# Altium integrated library Atmel Memory EEPROM.IntLib: 84 symbols (part 2 of 2)
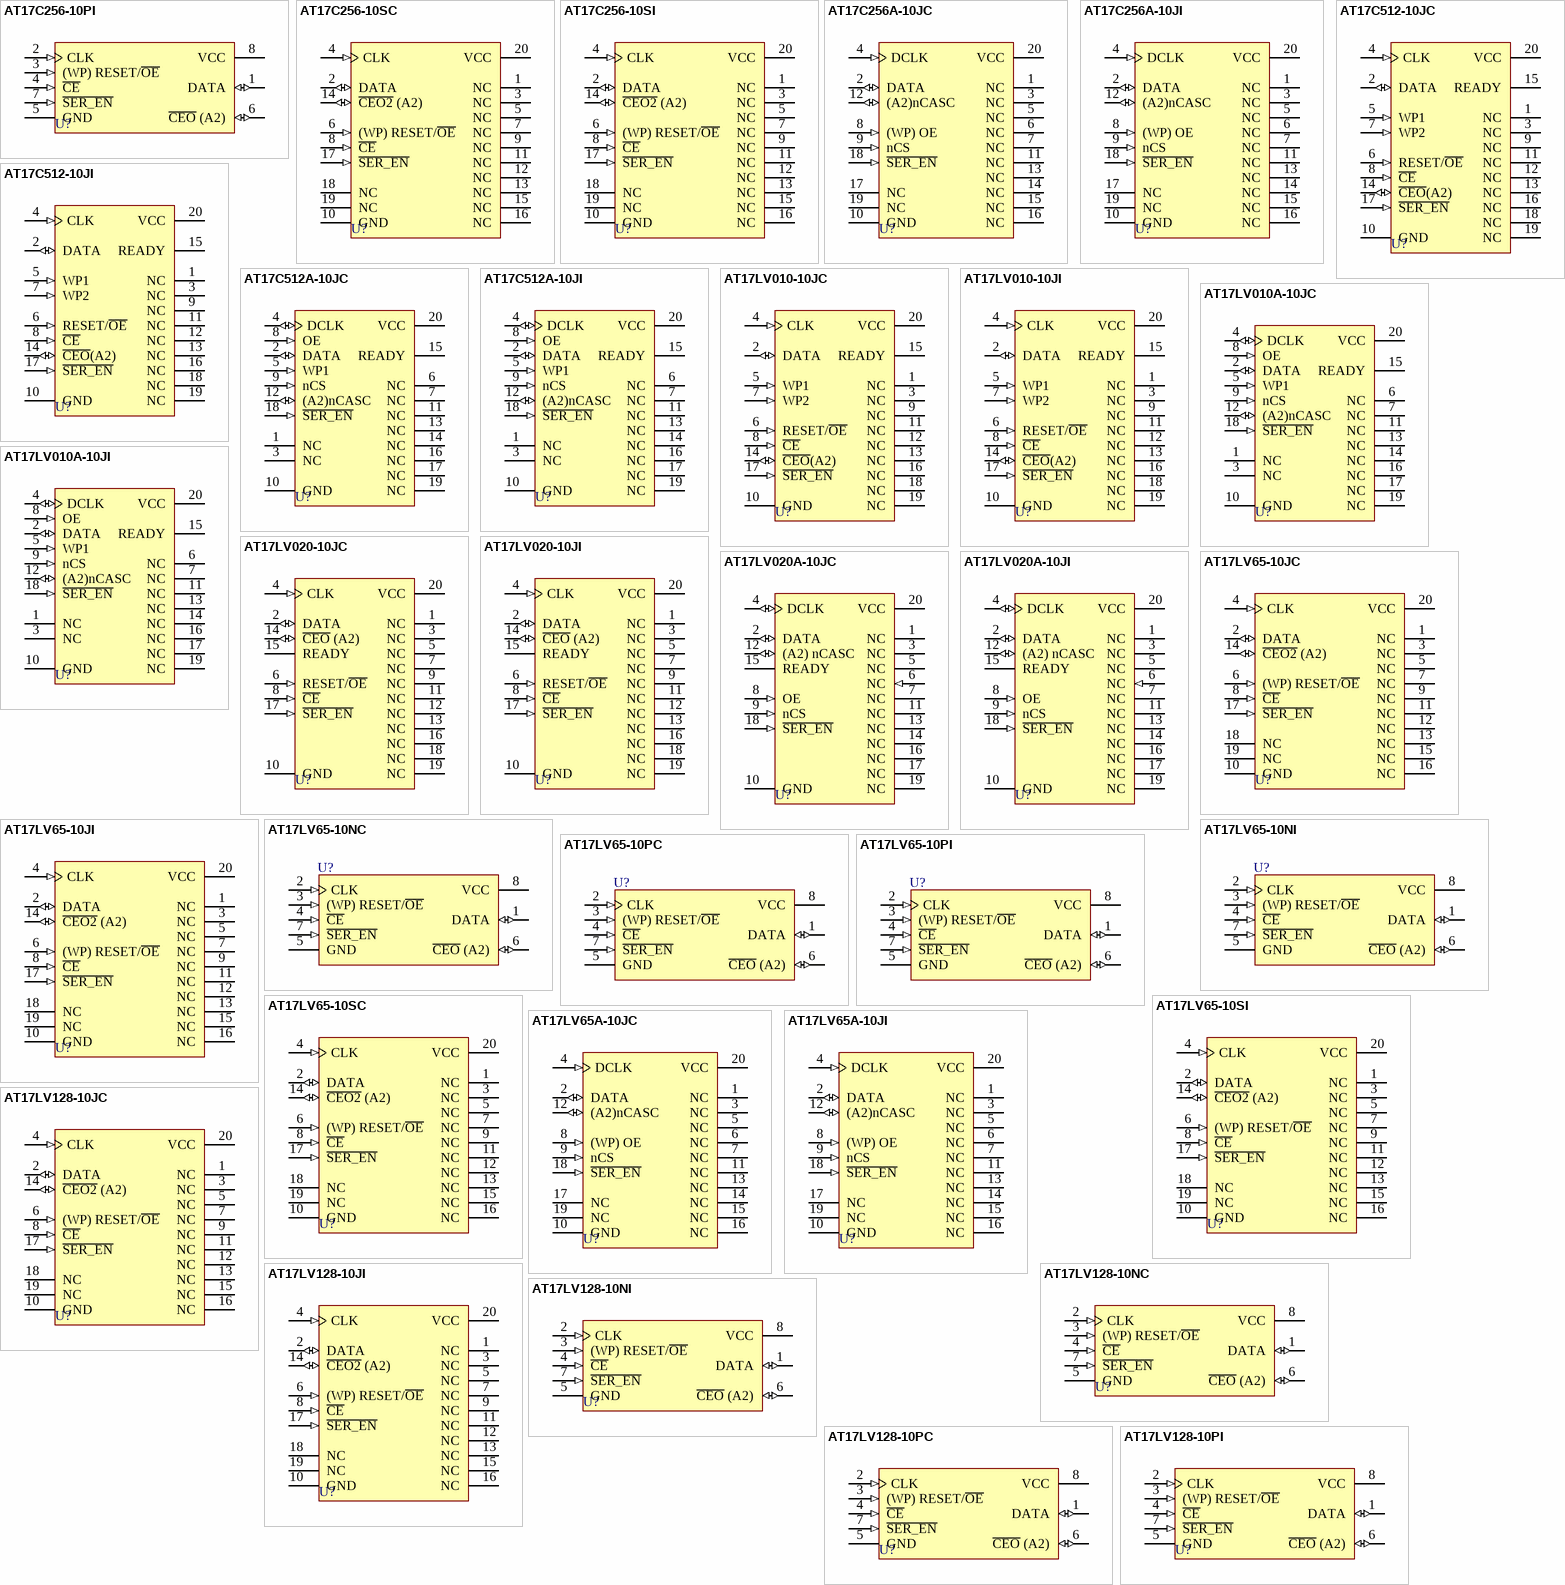
[diagram p3: symbols AT17C256-10PI to AT17LV128-10PI]

## AT17LV020-10JC
designator U?
FPGA Configuration EEPROM 2M Memory; Published: 17-Jul-2002; LatestRevisionDate: 13-Apr-2006; LatestRevisionNote: IPC-7351 Footprint Added.; DatasheetVersion: Rev. 1239B-05/99; PackageVersion: Aug-1999; PackageReference: 20J; Publisher: Altium Limited; PackageDescription: 20-Pin Leaded Chip Carrier 1.27 mm Pitch; Code_JEDEC: MS-018-AA; Code_IPC: PLCC-20; ComponentLink1Description: Manufacturer Link; ComponentLink1URL: http://www.atmel.com
footprint 20J_N (Leaded Chip Carrier, 20-Leads, Body 9x9mm, Pitch 1.27mm, IPC Medium Density)
footprint 20J_L (Leaded Chip Carrier, 20-Leads, Body 9x9mm, Pitch 1.27mm, IPC High Density)
footprint 20J_M (Leaded Chip Carrier, 20-Leads, Body 9x9mm, Pitch 1.27mm, IPC Low Density)
3D model AT17LV020-20J (20-Pin Leaded Chip Carrier 1.27 mm Pitch)
pins: 1 NC, 2 DATA (io), 3 NC, 4 CLK (in), 5 NC, 6 RESET/~{OE} (in), 7 NC, 8 ~{CE} (in), 9 NC, 10 GND (power), 11 NC, 12 NC, 13 NC, 14 ~{CEO} (A2) (io), 15 READY (oc), 16 NC, 17 ~{SER_EN} (in), 18 NC, 19 NC, 20 VCC (power)

## AT17LV020-10JI
designator U?
FPGA Configuration EEPROM 2M Memory; Published: 17-Jul-2002; LatestRevisionDate: 13-Apr-2006; LatestRevisionNote: IPC-7351 Footprint Added.; DatasheetVersion: Rev. 1239B-05/99; PackageVersion: Aug-1999; PackageReference: 20J; Publisher: Altium Limited; PackageDescription: 20-Pin Leaded Chip Carrier 1.27 mm Pitch; Code_JEDEC: MS-018-AA; Code_IPC: PLCC-20; ComponentLink1Description: Manufacturer Link; ComponentLink1URL: http://www.atmel.com
footprint 20J_N (Leaded Chip Carrier, 20-Leads, Body 9x9mm, Pitch 1.27mm, IPC Medium Density)
footprint 20J_L (Leaded Chip Carrier, 20-Leads, Body 9x9mm, Pitch 1.27mm, IPC High Density)
footprint 20J_M (Leaded Chip Carrier, 20-Leads, Body 9x9mm, Pitch 1.27mm, IPC Low Density)
3D model AT17LV020-20J (20-Pin Leaded Chip Carrier 1.27 mm Pitch)
pins: 1 NC, 2 DATA (io), 3 NC, 4 CLK (in), 5 NC, 6 RESET/~{OE} (in), 7 NC, 8 ~{CE} (in), 9 NC, 10 GND (power), 11 NC, 12 NC, 13 NC, 14 ~{CEO} (A2) (io), 15 READY (oc), 16 NC, 17 ~{SER_EN} (in), 18 NC, 19 NC, 20 VCC (power)

## AT17LV020A-10JC
designator U?
FPGA Configuration EEPROM 2M Memory; Published: 17-Jul-2002; LatestRevisionDate: 13-Apr-2006; LatestRevisionNote: IPC-7351 Footprint Added.; DatasheetVersion: Rev. 1270A-05/00; PackageVersion: Aug-1999; PackageReference: 20J; Publisher: Altium Limited; PackageDescription: 20-Pin Leaded Chip Carrier 1.27 mm Pitch; Code_JEDEC: MS-018-AA; Code_IPC: PLCC-20; ComponentLink1Description: Manufacturer Link; ComponentLink1URL: http://www.atmel.com
footprint 20J_N (Leaded Chip Carrier, 20-Leads, Body 9x9mm, Pitch 1.27mm, IPC Medium Density)
footprint 20J_L (Leaded Chip Carrier, 20-Leads, Body 9x9mm, Pitch 1.27mm, IPC High Density)
footprint 20J_M (Leaded Chip Carrier, 20-Leads, Body 9x9mm, Pitch 1.27mm, IPC Low Density)
3D model AT17LV020A-20J (20-Pin Leaded Chip Carrier 1.27 mm Pitch)
pins: 1 NC, 2 DATA (io), 3 NC, 4 DCLK (io), 5 NC, 6 NC (in), 7 NC, 8 OE (in), 9 nCS (in), 10 GND (power), 11 NC, 12 (A2) nCASC (io), 13 NC, 14 NC, 15 READY (oc), 16 NC, 17 NC, 18 ~{SER_EN} (in), 19 NC, 20 VCC (power)

## AT17LV020A-10JI
designator U?
FPGA Configuration EEPROM 2M Memory; Published: 17-Jul-2002; LatestRevisionDate: 13-Apr-2006; LatestRevisionNote: IPC-7351 Footprint Added.; DatasheetVersion: Rev. 1270A-05/00; PackageVersion: Aug-1999; PackageReference: 20J; Publisher: Altium Limited; PackageDescription: 20-Pin Leaded Chip Carrier 1.27 mm Pitch; Code_JEDEC: MS-018-AA; Code_IPC: PLCC-20; ComponentLink1Description: Manufacturer Link; ComponentLink1URL: http://www.atmel.com
footprint 20J_N (Leaded Chip Carrier, 20-Leads, Body 9x9mm, Pitch 1.27mm, IPC Medium Density)
footprint 20J_L (Leaded Chip Carrier, 20-Leads, Body 9x9mm, Pitch 1.27mm, IPC High Density)
footprint 20J_M (Leaded Chip Carrier, 20-Leads, Body 9x9mm, Pitch 1.27mm, IPC Low Density)
3D model AT17LV020A-20J (20-Pin Leaded Chip Carrier 1.27 mm Pitch)
pins: 1 NC, 2 DATA (io), 3 NC, 4 DCLK (io), 5 NC, 6 NC (in), 7 NC, 8 OE (in), 9 nCS (in), 10 GND (power), 11 NC, 12 (A2) nCASC (io), 13 NC, 14 NC, 15 READY (oc), 16 NC, 17 NC, 18 ~{SER_EN} (in), 19 NC, 20 VCC (power)

## AT17LV65-10JC
designator U?
FPGA Configuration EEPROM 64K Memory; Published: 17-Jul-2002; LatestRevisionDate: 13-Apr-2006; LatestRevisionNote: IPC-7351 Footprint Added.; DatasheetVersion: Rev. 1636B-05/00; PackageVersion: Aug-1999; PackageReference: 20J; Publisher: Altium Limited; PackageDescription: 20-Pin Leaded Chip Carrier 1.27 mm Pitch; Code_JEDEC: MS-018-AA; Code_IPC: PLCC-20; ComponentLink1Description: Manufacturer Link; ComponentLink1URL: http://www.atmel.com; ComponentLink2Description: Datasheet; ComponentLink2URL: http://www.atmel.com/dyn/resources/prod_documents/doc2321.pdf
footprint 20J_N (Leaded Chip Carrier, 20-Leads, Body 9x9mm, Pitch 1.27mm, IPC Medium Density)
footprint 20J_L (Leaded Chip Carrier, 20-Leads, Body 9x9mm, Pitch 1.27mm, IPC High Density)
footprint 20J_M (Leaded Chip Carrier, 20-Leads, Body 9x9mm, Pitch 1.27mm, IPC Low Density)
3D model AT17LV65-20J (20-Pin Leaded Chip Carrier 1.27 mm Pitch)
pins: 1 NC, 2 DATA (io), 3 NC, 4 CLK (in), 5 NC, 6 (WP) RESET/~{OE} (in), 7 NC, 8 ~{CE} (in), 9 NC, 10 GND (power), 11 NC, 12 NC, 13 NC, 14 ~{CEO2} (A2) (io), 15 NC, 16 NC, 17 ~{SER_EN} (in), 18 NC, 19 NC, 20 VCC (power)

## AT17LV65-10JI
designator U?
FPGA Configuration EEPROM 64K Memory; Published: 17-Jul-2002; LatestRevisionDate: 13-Apr-2006; LatestRevisionNote: IPC-7351 Footprint Added.; DatasheetVersion: Rev. 1636B-05/00; PackageVersion: Aug-1999; PackageReference: 20J; Publisher: Altium Limited; PackageDescription: 20-Pin Leaded Chip Carrier 1.27 mm Pitch; Code_JEDEC: MS-018-AA; Code_IPC: PLCC-20; ComponentLink1Description: Manufacturer Link; ComponentLink1URL: http://www.atmel.com; ComponentLink2Description: Datasheet; ComponentLink2URL: http://www.atmel.com/dyn/resources/prod_documents/doc2321.pdf
footprint 20J_N (Leaded Chip Carrier, 20-Leads, Body 9x9mm, Pitch 1.27mm, IPC Medium Density)
footprint 20J_L (Leaded Chip Carrier, 20-Leads, Body 9x9mm, Pitch 1.27mm, IPC High Density)
footprint 20J_M (Leaded Chip Carrier, 20-Leads, Body 9x9mm, Pitch 1.27mm, IPC Low Density)
3D model AT17LV65-20J (20-Pin Leaded Chip Carrier 1.27 mm Pitch)
pins: 1 NC, 2 DATA (io), 3 NC, 4 CLK (in), 5 NC, 6 (WP) RESET/~{OE} (in), 7 NC, 8 ~{CE} (in), 9 NC, 10 GND (power), 11 NC, 12 NC, 13 NC, 14 ~{CEO2} (A2) (io), 15 NC, 16 NC, 17 ~{SER_EN} (in), 18 NC, 19 NC, 20 VCC (power)

## AT17LV65-10NC
designator U?
FPGA Configuration EEPROM 64K Memory; Published: 17-Jul-2002; LatestRevisionDate: 13-Apr-2006; LatestRevisionNote: IPC-7351 Footprint Added.; DatasheetVersion: Rev. 1636B-05/00; PackageReference: 8S1; Publisher: Altium Limited; PackageDescription: 8-Pin Small Outline Integrated Circuit 1.27 mm Pitch; Code_JEDEC: MS-012-AA; Code_IPC: SOIC127P600-8; ComponentLink1Description: Manufacturer Link; ComponentLink1URL: http://www.atmel.com; ComponentLink2Description: Datasheet; ComponentLink2URL: http://www.atmel.com/dyn/resources/prod_documents/doc2321.pdf
footprint 8S1_N (SOIC, 8-Leads, Body 4.9x3.9mm, Pitch 1.27mm, IPC Medium Density)
footprint 8S1_L (SOIC, 8-Leads, Body 4.9x3.9mm, Pitch 1.27mm, IPC High Density)
footprint 8S1_M (SOIC, 8-Leads, Body 4.9x3.9mm, Pitch 1.27mm, IPC Low Density)
3D model 8S1 (8-Pin Small Outline Integrated Circuit 1.27 mm Pitch)
pins: 1 DATA (io), 2 CLK (in), 3 (WP) RESET/~{OE} (in), 4 ~{CE} (in), 5 GND (power), 6 ~{CEO} (A2) (io), 7 ~{SER_EN} (in), 8 VCC (power)

## AT17LV65-10NI
designator U?
FPGA Configuration EEPROM 64K Memory; Published: 17-Jul-2002; LatestRevisionDate: 13-Apr-2006; LatestRevisionNote: IPC-7351 Footprint Added.; DatasheetVersion: Rev. 1636B-05/00; PackageReference: 8S1; Publisher: Altium Limited; PackageDescription: 8-Pin Small Outline Integrated Circuit 1.27 mm Pitch; Code_JEDEC: MS-012-AA; Code_IPC: SOIC127P600-8; ComponentLink1Description: Manufacturer Link; ComponentLink1URL: http://www.atmel.com; ComponentLink2Description: Datasheet; ComponentLink2URL: http://www.atmel.com/dyn/resources/prod_documents/doc2321.pdf
footprint 8S1_N (SOIC, 8-Leads, Body 4.9x3.9mm, Pitch 1.27mm, IPC Medium Density)
footprint 8S1_L (SOIC, 8-Leads, Body 4.9x3.9mm, Pitch 1.27mm, IPC High Density)
footprint 8S1_M (SOIC, 8-Leads, Body 4.9x3.9mm, Pitch 1.27mm, IPC Low Density)
3D model 8S1 (8-Pin Small Outline Integrated Circuit 1.27 mm Pitch)
pins: 1 DATA (io), 2 CLK (in), 3 (WP) RESET/~{OE} (in), 4 ~{CE} (in), 5 GND (power), 6 ~{CEO} (A2) (io), 7 ~{SER_EN} (in), 8 VCC (power)

## AT17LV65-10PC
designator U?
FPGA Configuration EEPROM 64K Memory; Published: 17-Jul-2002; LatestRevisionDate: 04-Mar-2005; LatestRevisionNote: Stylized 3D Model Added.; DatasheetVersion: Rev. 1636B-05/00; PackageReference: 8P3; Publisher: Altium Limited; PackageDescription: DIP; 8 Leads; Row Spacing 7.62 mm; Pitch 2.54 mm; ComponentLink1Description: Manufacturer Link; ComponentLink1URL: http://www.atmel.com; ComponentLink2Description: Datasheet; ComponentLink2URL: http://www.atmel.com/dyn/resources/prod_documents/doc2321.pdf
footprint 8P3 (DIP; 8 Leads; Row Spacing 7.62 mm; Pitch 2.54 mm)
3D model 8P3 (DIP; 8 Leads; Row Spacing 7.62 mm; Pitch 2.54 mm)
pins: 1 DATA (io), 2 CLK (in), 3 (WP) RESET/~{OE} (in), 4 ~{CE} (in), 5 GND (power), 6 ~{CEO} (A2) (io), 7 ~{SER_EN} (in), 8 VCC (power)

## AT17LV65-10PI
designator U?
FPGA Configuration EEPROM 64K Memory; Published: 17-Jul-2002; LatestRevisionDate: 04-Mar-2005; LatestRevisionNote: Stylized 3D Model Added.; DatasheetVersion: Rev. 1636B-05/00; PackageReference: 8P3; Publisher: Altium Limited; PackageDescription: DIP; 8 Leads; Row Spacing 7.62 mm; Pitch 2.54 mm; ComponentLink1Description: Manufacturer Link; ComponentLink1URL: http://www.atmel.com; ComponentLink2Description: Datasheet; ComponentLink2URL: http://www.atmel.com/dyn/resources/prod_documents/doc2321.pdf
footprint 8P3 (DIP; 8 Leads; Row Spacing 7.62 mm; Pitch 2.54 mm)
3D model 8P3 (DIP; 8 Leads; Row Spacing 7.62 mm; Pitch 2.54 mm)
pins: 1 DATA (io), 2 CLK (in), 3 (WP) RESET/~{OE} (in), 4 ~{CE} (in), 5 GND (power), 6 ~{CEO} (A2) (io), 7 ~{SER_EN} (in), 8 VCC (power)

## AT17LV65-10SC
designator U?
FPGA Configuration EEPROM 64K Memory; Published: 17-Jul-2002; LatestRevisionDate: 13-Apr-2006; LatestRevisionNote: IPC-7351 Footprint Added.; DatasheetVersion: Rev. 1636B-05/00; PackageVersion: Aug-1999; PackageReference: 20S; Publisher: Altium Limited; PackageDescription: 20-Pin Small Outline Integrated Circuit 1.27 mm Pitch; ComponentLink1Description: Manufacturer Link; ComponentLink1URL: http://www.atmel.com; ComponentLink2Description: Datasheet; ComponentLink2URL: http://www.atmel.com/dyn/resources/prod_documents/doc2321.pdf
footprint 20S_N (SOIC, 20-Leads, Body 12.8x7.5mm, Pitch 1.27mm, IPC Medium Density)
footprint 20S_L (SOIC, 20-Leads, Body 12.8x7.5mm, Pitch 1.27mm, IPC High Density)
footprint 20S_M (SOIC, 20-Leads, Body 12.8x7.5mm, Pitch 1.27mm, IPC Low Density)
3D model 20S (20-Pin Small Outline Integrated Circuit 1.27 mm Pitch)
pins: 1 NC, 2 DATA (io), 3 NC, 4 CLK (in), 5 NC, 6 (WP) RESET/~{OE} (in), 7 NC, 8 ~{CE} (in), 9 NC, 10 GND (power), 11 NC, 12 NC, 13 NC, 14 ~{CEO2} (A2) (io), 15 NC, 16 NC, 17 ~{SER_EN} (in), 18 NC, 19 NC, 20 VCC (power)

## AT17LV65-10SI
designator U?
FPGA Configuration EEPROM 64K Memory; Published: 17-Jul-2002; LatestRevisionDate: 13-Apr-2006; LatestRevisionNote: IPC-7351 Footprint Added.; DatasheetVersion: Rev. 1636B-05/00; PackageVersion: Aug-1999; PackageReference: 20S; Publisher: Altium Limited; PackageDescription: 20-Pin Small Outline Integrated Circuit 1.27 mm Pitch; ComponentLink1Description: Manufacturer Link; ComponentLink1URL: http://www.atmel.com; ComponentLink2Description: Datasheet; ComponentLink2URL: http://www.atmel.com/dyn/resources/prod_documents/doc2321.pdf
footprint 20S_N (SOIC, 20-Leads, Body 12.8x7.5mm, Pitch 1.27mm, IPC Medium Density)
footprint 20S_L (SOIC, 20-Leads, Body 12.8x7.5mm, Pitch 1.27mm, IPC High Density)
footprint 20S_M (SOIC, 20-Leads, Body 12.8x7.5mm, Pitch 1.27mm, IPC Low Density)
3D model 20S (20-Pin Small Outline Integrated Circuit 1.27 mm Pitch)
pins: 1 NC, 2 DATA (io), 3 NC, 4 CLK (in), 5 NC, 6 (WP) RESET/~{OE} (in), 7 NC, 8 ~{CE} (in), 9 NC, 10 GND (power), 11 NC, 12 NC, 13 NC, 14 ~{CEO2} (A2) (io), 15 NC, 16 NC, 17 ~{SER_EN} (in), 18 NC, 19 NC, 20 VCC (power)

## AT17LV65A-10JC
designator U?
FPGA Configuration EEPROM 64K Memory; Published: 17-Jul-2002; LatestRevisionDate: 13-Apr-2006; LatestRevisionNote: IPC-7351 Footprint Added.; DatasheetVersion: Rev. 0996B-10/99; PackageVersion: Aug-1999; PackageReference: 20J; Publisher: Altium Limited; PackageDescription: 20-Pin Leaded Chip Carrier 1.27 mm Pitch; Code_JEDEC: MS-018-AA; Code_IPC: PLCC-20; ComponentLink1Description: Manufacturer Link; ComponentLink1URL: http://www.atmel.com; ComponentLink2Description: Datasheet; ComponentLink2URL: http://www.atmel.com/dyn/resources/prod_documents/doc2322.pdf
footprint 20J_N (Leaded Chip Carrier, 20-Leads, Body 9x9mm, Pitch 1.27mm, IPC Medium Density)
footprint 20J_L (Leaded Chip Carrier, 20-Leads, Body 9x9mm, Pitch 1.27mm, IPC High Density)
footprint 20J_M (Leaded Chip Carrier, 20-Leads, Body 9x9mm, Pitch 1.27mm, IPC Low Density)
3D model AT17LV65A-20J (20-Pin Leaded Chip Carrier 1.27 mm Pitch)
pins: 1 NC, 2 DATA (io), 3 NC, 4 DCLK (in), 5 NC, 6 NC, 7 NC, 8 (WP) OE (in), 9 nCS (in), 10 GND (power), 11 NC, 12 (A2)nCASC (io), 13 NC, 14 NC, 15 NC, 16 NC, 17 NC, 18 ~{SER_EN} (in), 19 NC, 20 VCC (power)

## AT17LV65A-10JI
designator U?
FPGA Configuration EEPROM 64K Memory; Published: 17-Jul-2002; LatestRevisionDate: 13-Apr-2006; LatestRevisionNote: IPC-7351 Footprint Added.; DatasheetVersion: Rev. 0996B-10/99; PackageVersion: Aug-1999; PackageReference: 20J; Publisher: Altium Limited; PackageDescription: 20-Pin Leaded Chip Carrier 1.27 mm Pitch; Code_JEDEC: MS-018-AA; Code_IPC: PLCC-20; ComponentLink1Description: Manufacturer Link; ComponentLink1URL: http://www.atmel.com; ComponentLink2Description: Datasheet; ComponentLink2URL: http://www.atmel.com/dyn/resources/prod_documents/doc2322.pdf
footprint 20J_N (Leaded Chip Carrier, 20-Leads, Body 9x9mm, Pitch 1.27mm, IPC Medium Density)
footprint 20J_L (Leaded Chip Carrier, 20-Leads, Body 9x9mm, Pitch 1.27mm, IPC High Density)
footprint 20J_M (Leaded Chip Carrier, 20-Leads, Body 9x9mm, Pitch 1.27mm, IPC Low Density)
3D model AT17LV65A-20J (20-Pin Leaded Chip Carrier 1.27 mm Pitch)
pins: 1 NC, 2 DATA (io), 3 NC, 4 DCLK (in), 5 NC, 6 NC, 7 NC, 8 (WP) OE (in), 9 nCS (in), 10 GND (power), 11 NC, 12 (A2)nCASC (io), 13 NC, 14 NC, 15 NC, 16 NC, 17 NC, 18 ~{SER_EN} (in), 19 NC, 20 VCC (power)

## AT17LV128-10JC
designator U?
FPGA Configuration EEPROM 128K Memory; Published: 17-Jul-2002; LatestRevisionDate: 13-Apr-2006; LatestRevisionNote: IPC-7351 Footprint Added.; DatasheetVersion: Rev. 1636B-05/00; PackageVersion: Aug-1999; PackageReference: 20J; Publisher: Altium Limited; PackageDescription: 20-Pin Leaded Chip Carrier 1.27 mm Pitch; Code_JEDEC: MS-018-AA; Code_IPC: PLCC-20; ComponentLink1Description: Manufacturer Link; ComponentLink1URL: http://www.atmel.com; ComponentLink2Description: Datasheet; ComponentLink2URL: http://www.atmel.com/dyn/resources/prod_documents/doc2321.pdf
footprint 20J_N (Leaded Chip Carrier, 20-Leads, Body 9x9mm, Pitch 1.27mm, IPC Medium Density)
footprint 20J_L (Leaded Chip Carrier, 20-Leads, Body 9x9mm, Pitch 1.27mm, IPC High Density)
footprint 20J_M (Leaded Chip Carrier, 20-Leads, Body 9x9mm, Pitch 1.27mm, IPC Low Density)
3D model AT17LV128-20J (20-Pin Leaded Chip Carrier 1.27 mm Pitch)
pins: 1 NC, 2 DATA (io), 3 NC, 4 CLK (in), 5 NC, 6 (WP) RESET/~{OE} (in), 7 NC, 8 ~{CE} (in), 9 NC, 10 GND (power), 11 NC, 12 NC, 13 NC, 14 ~{CEO2} (A2) (io), 15 NC, 16 NC, 17 ~{SER_EN} (in), 18 NC, 19 NC, 20 VCC (power)

## AT17LV128-10JI
designator U?
FPGA Configuration EEPROM 128K Memory; Published: 17-Jul-2002; LatestRevisionDate: 13-Apr-2006; LatestRevisionNote: IPC-7351 Footprint Added.; DatasheetVersion: Rev. 1636B-05/00; PackageVersion: Aug-1999; PackageReference: 20J; Publisher: Altium Limited; PackageDescription: 20-Pin Leaded Chip Carrier 1.27 mm Pitch; Code_JEDEC: MS-018-AA; Code_IPC: PLCC-20; ComponentLink1Description: Manufacturer Link; ComponentLink1URL: http://www.atmel.com; ComponentLink2Description: Datasheet; ComponentLink2URL: http://www.atmel.com/dyn/resources/prod_documents/doc2321.pdf
footprint 20J_N (Leaded Chip Carrier, 20-Leads, Body 9x9mm, Pitch 1.27mm, IPC Medium Density)
footprint 20J_L (Leaded Chip Carrier, 20-Leads, Body 9x9mm, Pitch 1.27mm, IPC High Density)
footprint 20J_M (Leaded Chip Carrier, 20-Leads, Body 9x9mm, Pitch 1.27mm, IPC Low Density)
3D model AT17LV128-20J (20-Pin Leaded Chip Carrier 1.27 mm Pitch)
pins: 1 NC, 2 DATA (io), 3 NC, 4 CLK (in), 5 NC, 6 (WP) RESET/~{OE} (in), 7 NC, 8 ~{CE} (in), 9 NC, 10 GND (power), 11 NC, 12 NC, 13 NC, 14 ~{CEO2} (A2) (io), 15 NC, 16 NC, 17 ~{SER_EN} (in), 18 NC, 19 NC, 20 VCC (power)

## AT17LV128-10NC
designator U?
FPGA Configuration EEPROM 128K Memory; Published: 17-Jul-2002; LatestRevisionDate: 13-Apr-2006; LatestRevisionNote: IPC-7351 Footprint Added.; DatasheetVersion: Rev. 1636B-05/00; PackageReference: 8S1; Publisher: Altium Limited; PackageDescription: 8-Pin Small Outline Integrated Circuit 1.27 mm Pitch; Code_JEDEC: MS-012-AA; Code_IPC: SOIC127P600-8; ComponentLink1Description: Manufacturer Link; ComponentLink1URL: http://www.atmel.com; ComponentLink2Description: Datasheet; ComponentLink2URL: http://www.atmel.com/dyn/resources/prod_documents/doc2321.pdf
footprint 8S1_N (SOIC, 8-Leads, Body 4.9x3.9mm, Pitch 1.27mm, IPC Medium Density)
footprint 8S1_L (SOIC, 8-Leads, Body 4.9x3.9mm, Pitch 1.27mm, IPC High Density)
footprint 8S1_M (SOIC, 8-Leads, Body 4.9x3.9mm, Pitch 1.27mm, IPC Low Density)
3D model 8S1 (8-Pin Small Outline Integrated Circuit 1.27 mm Pitch)
pins: 1 DATA (io), 2 CLK (in), 3 (WP) RESET/~{OE} (in), 4 ~{CE} (in), 5 GND (power), 6 ~{CEO} (A2) (io), 7 ~{SER_EN} (in), 8 VCC (power)

## AT17LV128-10NI
designator U?
FPGA Configuration EEPROM 128K Memory; Published: 17-Jul-2002; LatestRevisionDate: 13-Apr-2006; LatestRevisionNote: IPC-7351 Footprint Added.; DatasheetVersion: Rev. 1636B-05/00; PackageReference: 8S1; Publisher: Altium Limited; PackageDescription: 8-Pin Small Outline Integrated Circuit 1.27 mm Pitch; Code_JEDEC: MS-012-AA; Code_IPC: SOIC127P600-8; ComponentLink1Description: Manufacturer Link; ComponentLink1URL: http://www.atmel.com; ComponentLink2Description: Datasheet; ComponentLink2URL: http://www.atmel.com/dyn/resources/prod_documents/doc2321.pdf
footprint 8S1_N (SOIC, 8-Leads, Body 4.9x3.9mm, Pitch 1.27mm, IPC Medium Density)
footprint 8S1_L (SOIC, 8-Leads, Body 4.9x3.9mm, Pitch 1.27mm, IPC High Density)
footprint 8S1_M (SOIC, 8-Leads, Body 4.9x3.9mm, Pitch 1.27mm, IPC Low Density)
3D model 8S1 (8-Pin Small Outline Integrated Circuit 1.27 mm Pitch)
pins: 1 DATA (io), 2 CLK (in), 3 (WP) RESET/~{OE} (in), 4 ~{CE} (in), 5 GND (power), 6 ~{CEO} (A2) (io), 7 ~{SER_EN} (in), 8 VCC (power)

## AT17LV128-10PC
designator U?
FPGA Configuration EEPROM 128K Memory; Published: 17-Jul-2002; LatestRevisionDate: 04-Mar-2005; LatestRevisionNote: Stylized 3D Model Added.; DatasheetVersion: Rev. 1636B-05/00; PackageReference: 8P3; Publisher: Altium Limited; PackageDescription: DIP; 8 Leads; Row Spacing 7.62 mm; Pitch 2.54 mm; ComponentLink1Description: Manufacturer Link; ComponentLink1URL: http://www.atmel.com; ComponentLink2Description: Datasheet; ComponentLink2URL: http://www.atmel.com/dyn/resources/prod_documents/doc2321.pdf
footprint 8P3 (DIP; 8 Leads; Row Spacing 7.62 mm; Pitch 2.54 mm)
3D model 8P3 (DIP; 8 Leads; Row Spacing 7.62 mm; Pitch 2.54 mm)
pins: 1 DATA (io), 2 CLK (in), 3 (WP) RESET/~{OE} (in), 4 ~{CE} (in), 5 GND (power), 6 ~{CEO} (A2) (io), 7 ~{SER_EN} (in), 8 VCC (power)

## AT17LV128-10PI
designator U?
FPGA Configuration EEPROM 128K Memory; Published: 17-Jul-2002; LatestRevisionDate: 04-Mar-2005; LatestRevisionNote: Stylized 3D Model Added.; DatasheetVersion: Rev. 1636B-05/00; PackageReference: 8P3; Publisher: Altium Limited; PackageDescription: DIP; 8 Leads; Row Spacing 7.62 mm; Pitch 2.54 mm; ComponentLink1Description: Manufacturer Link; ComponentLink1URL: http://www.atmel.com; ComponentLink2Description: Datasheet; ComponentLink2URL: http://www.atmel.com/dyn/resources/prod_documents/doc2321.pdf
footprint 8P3 (DIP; 8 Leads; Row Spacing 7.62 mm; Pitch 2.54 mm)
3D model 8P3 (DIP; 8 Leads; Row Spacing 7.62 mm; Pitch 2.54 mm)
pins: 1 DATA (io), 2 CLK (in), 3 (WP) RESET/~{OE} (in), 4 ~{CE} (in), 5 GND (power), 6 ~{CEO} (A2) (io), 7 ~{SER_EN} (in), 8 VCC (power)

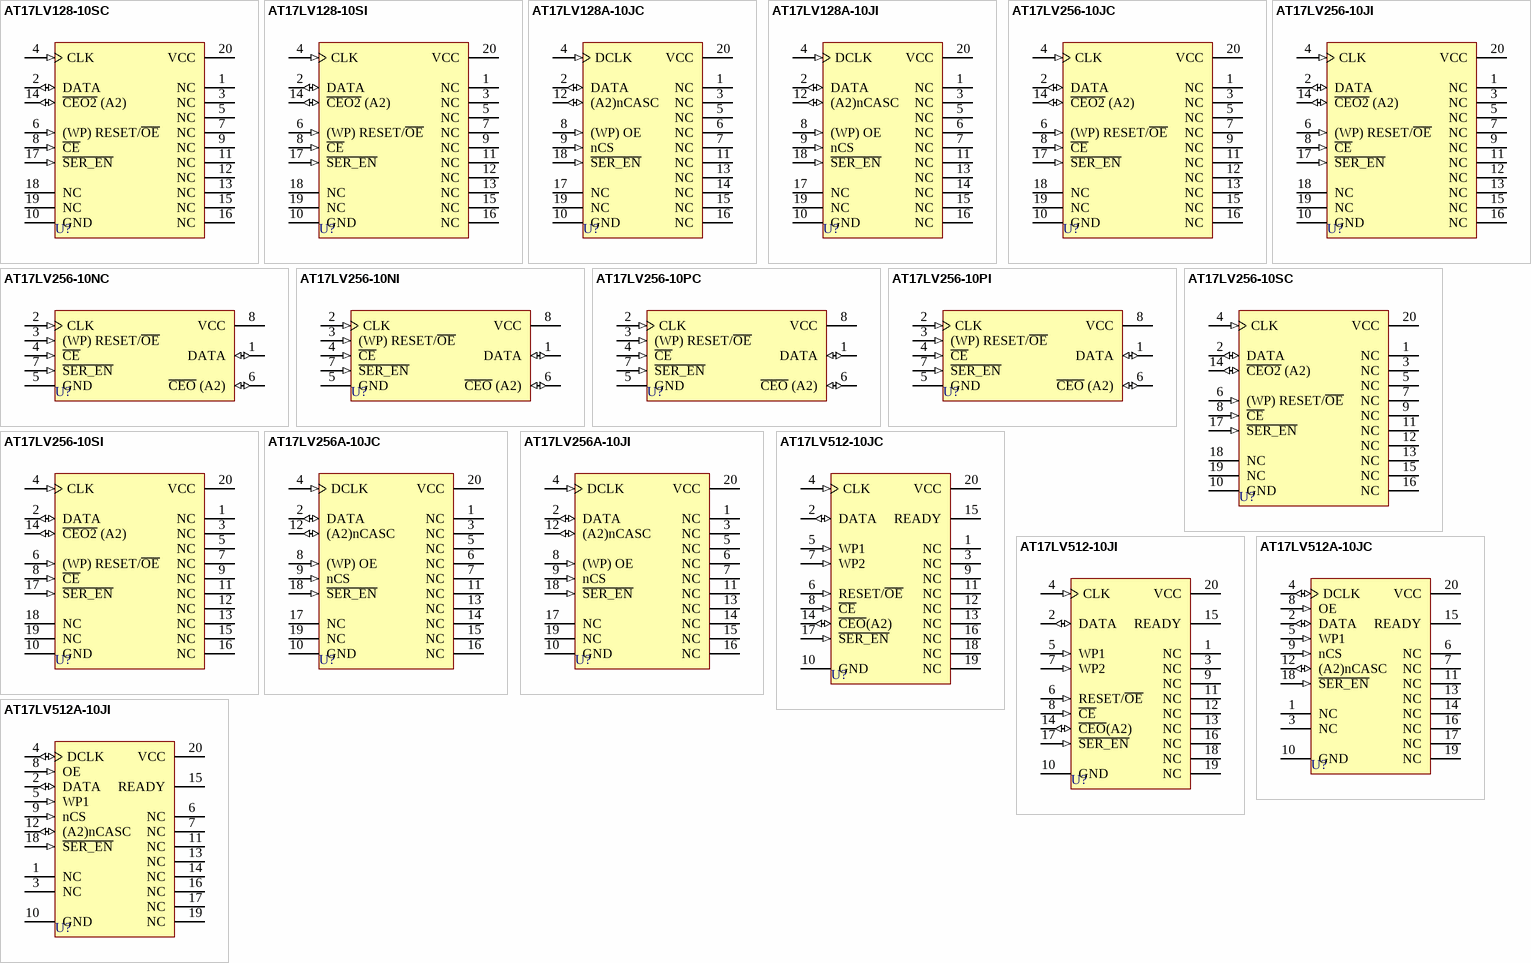
[diagram p2: symbols AT17LV128-10SC to AT17LV512A-10JI]

## AT17LV128-10SC
designator U?
FPGA Configuration EEPROM 128K Memory; Published: 17-Jul-2002; LatestRevisionDate: 13-Apr-2006; LatestRevisionNote: IPC-7351 Footprint Added.; DatasheetVersion: Rev. 1636B-05/00; PackageVersion: Aug-1999; PackageReference: 20S; Publisher: Altium Limited; PackageDescription: 20-Pin Small Outline Integrated Circuit 1.27 mm Pitch; ComponentLink1Description: Manufacturer Link; ComponentLink1URL: http://www.atmel.com; ComponentLink2Description: Datasheet; ComponentLink2URL: http://www.atmel.com/dyn/resources/prod_documents/doc2321.pdf
footprint 20S_N (SOIC, 20-Leads, Body 12.8x7.5mm, Pitch 1.27mm, IPC Medium Density)
footprint 20S_L (SOIC, 20-Leads, Body 12.8x7.5mm, Pitch 1.27mm, IPC High Density)
footprint 20S_M (SOIC, 20-Leads, Body 12.8x7.5mm, Pitch 1.27mm, IPC Low Density)
3D model 20S (20-Pin Small Outline Integrated Circuit 1.27 mm Pitch)
pins: 1 NC, 2 DATA (io), 3 NC, 4 CLK (in), 5 NC, 6 (WP) RESET/~{OE} (in), 7 NC, 8 ~{CE} (in), 9 NC, 10 GND (power), 11 NC, 12 NC, 13 NC, 14 ~{CEO2} (A2) (io), 15 NC, 16 NC, 17 ~{SER_EN} (in), 18 NC, 19 NC, 20 VCC (power)

## AT17LV128-10SI
designator U?
FPGA Configuration EEPROM 128K Memory; Published: 17-Jul-2002; LatestRevisionDate: 13-Apr-2006; LatestRevisionNote: IPC-7351 Footprint Added.; DatasheetVersion: Rev. 1636B-05/00; PackageVersion: Aug-1999; PackageReference: 20S; Publisher: Altium Limited; PackageDescription: 20-Pin Small Outline Integrated Circuit 1.27 mm Pitch; ComponentLink1Description: Manufacturer Link; ComponentLink1URL: http://www.atmel.com; ComponentLink2Description: Datasheet; ComponentLink2URL: http://www.atmel.com/dyn/resources/prod_documents/doc2321.pdf
footprint 20S_N (SOIC, 20-Leads, Body 12.8x7.5mm, Pitch 1.27mm, IPC Medium Density)
footprint 20S_L (SOIC, 20-Leads, Body 12.8x7.5mm, Pitch 1.27mm, IPC High Density)
footprint 20S_M (SOIC, 20-Leads, Body 12.8x7.5mm, Pitch 1.27mm, IPC Low Density)
3D model 20S (20-Pin Small Outline Integrated Circuit 1.27 mm Pitch)
pins: 1 NC, 2 DATA (io), 3 NC, 4 CLK (in), 5 NC, 6 (WP) RESET/~{OE} (in), 7 NC, 8 ~{CE} (in), 9 NC, 10 GND (power), 11 NC, 12 NC, 13 NC, 14 ~{CEO2} (A2) (io), 15 NC, 16 NC, 17 ~{SER_EN} (in), 18 NC, 19 NC, 20 VCC (power)

## AT17LV128A-10JC
designator U?
FPGA Configuration EEPROM 128K Memory; Published: 17-Jul-2002; LatestRevisionDate: 13-Apr-2006; LatestRevisionNote: IPC-7351 Footprint Added.; DatasheetVersion: Rev. 0996B-10/99; PackageVersion: Aug-1999; PackageReference: 20J; Publisher: Altium Limited; PackageDescription: 20-Pin Leaded Chip Carrier 1.27 mm Pitch; Code_JEDEC: MS-018-AA; Code_IPC: PLCC-20; ComponentLink1Description: Manufacturer Link; ComponentLink1URL: http://www.atmel.com; ComponentLink2Description: Datasheet; ComponentLink2URL: http://www.atmel.com/dyn/resources/prod_documents/doc2322.pdf
footprint 20J_N (Leaded Chip Carrier, 20-Leads, Body 9x9mm, Pitch 1.27mm, IPC Medium Density)
footprint 20J_L (Leaded Chip Carrier, 20-Leads, Body 9x9mm, Pitch 1.27mm, IPC High Density)
footprint 20J_M (Leaded Chip Carrier, 20-Leads, Body 9x9mm, Pitch 1.27mm, IPC Low Density)
3D model AT17LV128A-20J (20-Pin Leaded Chip Carrier 1.27 mm Pitch)
pins: 1 NC, 2 DATA (io), 3 NC, 4 DCLK (in), 5 NC, 6 NC, 7 NC, 8 (WP) OE (in), 9 nCS (in), 10 GND (power), 11 NC, 12 (A2)nCASC (io), 13 NC, 14 NC, 15 NC, 16 NC, 17 NC, 18 ~{SER_EN} (in), 19 NC, 20 VCC (power)

## AT17LV128A-10JI
designator U?
FPGA Configuration EEPROM 128K Memory; Published: 17-Jul-2002; LatestRevisionDate: 13-Apr-2006; LatestRevisionNote: IPC-7351 Footprint Added.; DatasheetVersion: Rev. 0996B-10/99; PackageVersion: Aug-1999; PackageReference: 20J; Publisher: Altium Limited; PackageDescription: 20-Pin Leaded Chip Carrier 1.27 mm Pitch; Code_JEDEC: MS-018-AA; Code_IPC: PLCC-20; ComponentLink1Description: Manufacturer Link; ComponentLink1URL: http://www.atmel.com; ComponentLink2Description: Datasheet; ComponentLink2URL: http://www.atmel.com/dyn/resources/prod_documents/doc2322.pdf
footprint 20J_N (Leaded Chip Carrier, 20-Leads, Body 9x9mm, Pitch 1.27mm, IPC Medium Density)
footprint 20J_L (Leaded Chip Carrier, 20-Leads, Body 9x9mm, Pitch 1.27mm, IPC High Density)
footprint 20J_M (Leaded Chip Carrier, 20-Leads, Body 9x9mm, Pitch 1.27mm, IPC Low Density)
3D model AT17LV128A-20J (20-Pin Leaded Chip Carrier 1.27 mm Pitch)
pins: 1 NC, 2 DATA (io), 3 NC, 4 DCLK (in), 5 NC, 6 NC, 7 NC, 8 (WP) OE (in), 9 nCS (in), 10 GND (power), 11 NC, 12 (A2)nCASC (io), 13 NC, 14 NC, 15 NC, 16 NC, 17 NC, 18 ~{SER_EN} (in), 19 NC, 20 VCC (power)

## AT17LV256-10JC
designator U?
FPGA Configuration EEPROM 256K Memory; Published: 17-Jul-2002; LatestRevisionDate: 13-Apr-2006; LatestRevisionNote: IPC-7351 Footprint Added.; DatasheetVersion: Rev. 1636B-05/00; PackageVersion: Aug-1999; PackageReference: 20J; Publisher: Altium Limited; PackageDescription: 20-Pin Leaded Chip Carrier 1.27 mm Pitch; Code_JEDEC: MS-018-AA; Code_IPC: PLCC-20; ComponentLink1Description: Manufacturer Link; ComponentLink1URL: http://www.atmel.com; ComponentLink2Description: Datasheet; ComponentLink2URL: http://www.atmel.com/dyn/resources/prod_documents/doc2321.pdf
footprint 20J_N (Leaded Chip Carrier, 20-Leads, Body 9x9mm, Pitch 1.27mm, IPC Medium Density)
footprint 20J_L (Leaded Chip Carrier, 20-Leads, Body 9x9mm, Pitch 1.27mm, IPC High Density)
footprint 20J_M (Leaded Chip Carrier, 20-Leads, Body 9x9mm, Pitch 1.27mm, IPC Low Density)
3D model AT17LV256-20J (20-Pin Leaded Chip Carrier 1.27 mm Pitch)
pins: 1 NC, 2 DATA (io), 3 NC, 4 CLK (in), 5 NC, 6 (WP) RESET/~{OE} (in), 7 NC, 8 ~{CE} (in), 9 NC, 10 GND (power), 11 NC, 12 NC, 13 NC, 14 ~{CEO2} (A2) (io), 15 NC, 16 NC, 17 ~{SER_EN} (in), 18 NC, 19 NC, 20 VCC (power)

## AT17LV256-10JI
designator U?
FPGA Configuration EEPROM 256K Memory; Published: 17-Jul-2002; LatestRevisionDate: 13-Apr-2006; LatestRevisionNote: IPC-7351 Footprint Added.; DatasheetVersion: Rev. 1636B-05/00; PackageVersion: Aug-1999; PackageReference: 20J; Publisher: Altium Limited; PackageDescription: 20-Pin Leaded Chip Carrier 1.27 mm Pitch; Code_JEDEC: MS-018-AA; Code_IPC: PLCC-20; ComponentLink1Description: Manufacturer Link; ComponentLink1URL: http://www.atmel.com; ComponentLink2Description: Datasheet; ComponentLink2URL: http://www.atmel.com/dyn/resources/prod_documents/doc2321.pdf
footprint 20J_N (Leaded Chip Carrier, 20-Leads, Body 9x9mm, Pitch 1.27mm, IPC Medium Density)
footprint 20J_L (Leaded Chip Carrier, 20-Leads, Body 9x9mm, Pitch 1.27mm, IPC High Density)
footprint 20J_M (Leaded Chip Carrier, 20-Leads, Body 9x9mm, Pitch 1.27mm, IPC Low Density)
3D model AT17LV256-20J (20-Pin Leaded Chip Carrier 1.27 mm Pitch)
pins: 1 NC, 2 DATA (io), 3 NC, 4 CLK (in), 5 NC, 6 (WP) RESET/~{OE} (in), 7 NC, 8 ~{CE} (in), 9 NC, 10 GND (power), 11 NC, 12 NC, 13 NC, 14 ~{CEO2} (A2) (io), 15 NC, 16 NC, 17 ~{SER_EN} (in), 18 NC, 19 NC, 20 VCC (power)

## AT17LV256-10NC
designator U?
FPGA Configuration EEPROM 256K Memory; Published: 17-Jul-2002; LatestRevisionDate: 13-Apr-2006; LatestRevisionNote: IPC-7351 Footprint Added.; DatasheetVersion: Rev. 1636B-05/00; PackageReference: 8S1; Publisher: Altium Limited; PackageDescription: 8-Pin Small Outline Integrated Circuit 1.27 mm Pitch; Code_JEDEC: MS-012-AA; Code_IPC: SOIC127P600-8; ComponentLink1Description: Manufacturer Link; ComponentLink1URL: http://www.atmel.com; ComponentLink2Description: Datasheet; ComponentLink2URL: http://www.atmel.com/dyn/resources/prod_documents/doc2321.pdf
footprint 8S1_N (SOIC, 8-Leads, Body 4.9x3.9mm, Pitch 1.27mm, IPC Medium Density)
footprint 8S1_L (SOIC, 8-Leads, Body 4.9x3.9mm, Pitch 1.27mm, IPC High Density)
footprint 8S1_M (SOIC, 8-Leads, Body 4.9x3.9mm, Pitch 1.27mm, IPC Low Density)
3D model 8S1 (8-Pin Small Outline Integrated Circuit 1.27 mm Pitch)
pins: 1 DATA (io), 2 CLK (in), 3 (WP) RESET/~{OE} (in), 4 ~{CE} (in), 5 GND (power), 6 ~{CEO} (A2) (io), 7 ~{SER_EN} (in), 8 VCC (power)

## AT17LV256-10NI
designator U?
FPGA Configuration EEPROM 256K Memory; Published: 17-Jul-2002; LatestRevisionDate: 13-Apr-2006; LatestRevisionNote: IPC-7351 Footprint Added.; DatasheetVersion: Rev. 1636B-05/00; PackageReference: 8S1; Publisher: Altium Limited; PackageDescription: 8-Pin Small Outline Integrated Circuit 1.27 mm Pitch; Code_JEDEC: MS-012-AA; Code_IPC: SOIC127P600-8; ComponentLink1Description: Manufacturer Link; ComponentLink1URL: http://www.atmel.com; ComponentLink2Description: Datasheet; ComponentLink2URL: http://www.atmel.com/dyn/resources/prod_documents/doc2321.pdf
footprint 8S1_N (SOIC, 8-Leads, Body 4.9x3.9mm, Pitch 1.27mm, IPC Medium Density)
footprint 8S1_L (SOIC, 8-Leads, Body 4.9x3.9mm, Pitch 1.27mm, IPC High Density)
footprint 8S1_M (SOIC, 8-Leads, Body 4.9x3.9mm, Pitch 1.27mm, IPC Low Density)
3D model 8S1 (8-Pin Small Outline Integrated Circuit 1.27 mm Pitch)
pins: 1 DATA (io), 2 CLK (in), 3 (WP) RESET/~{OE} (in), 4 ~{CE} (in), 5 GND (power), 6 ~{CEO} (A2) (io), 7 ~{SER_EN} (in), 8 VCC (power)

## AT17LV256-10PC
designator U?
FPGA Configuration EEPROM 256K Memory; Published: 17-Jul-2002; LatestRevisionDate: 04-Mar-2005; LatestRevisionNote: Stylized 3D Model Added.; DatasheetVersion: Rev. 1636B-05/00; PackageReference: 8P3; Publisher: Altium Limited; PackageDescription: DIP; 8 Leads; Row Spacing 7.62 mm; Pitch 2.54 mm; ComponentLink1Description: Manufacturer Link; ComponentLink1URL: http://www.atmel.com; ComponentLink2Description: Datasheet; ComponentLink2URL: http://www.atmel.com/dyn/resources/prod_documents/doc2321.pdf
footprint 8P3 (DIP; 8 Leads; Row Spacing 7.62 mm; Pitch 2.54 mm)
3D model 8P3 (DIP; 8 Leads; Row Spacing 7.62 mm; Pitch 2.54 mm)
pins: 1 DATA (io), 2 CLK (in), 3 (WP) RESET/~{OE} (in), 4 ~{CE} (in), 5 GND (power), 6 ~{CEO} (A2) (io), 7 ~{SER_EN} (in), 8 VCC (power)

## AT17LV256-10PI
designator U?
FPGA Configuration EEPROM 256K Memory; Published: 17-Jul-2002; LatestRevisionDate: 04-Mar-2005; LatestRevisionNote: Stylized 3D Model Added.; DatasheetVersion: Rev. 1636B-05/00; PackageReference: 8P3; Publisher: Altium Limited; PackageDescription: DIP; 8 Leads; Row Spacing 7.62 mm; Pitch 2.54 mm; ComponentLink1Description: Manufacturer Link; ComponentLink1URL: http://www.atmel.com; ComponentLink2Description: Datasheet; ComponentLink2URL: http://www.atmel.com/dyn/resources/prod_documents/doc2321.pdf
footprint 8P3 (DIP; 8 Leads; Row Spacing 7.62 mm; Pitch 2.54 mm)
3D model 8P3 (DIP; 8 Leads; Row Spacing 7.62 mm; Pitch 2.54 mm)
pins: 1 DATA (io), 2 CLK (in), 3 (WP) RESET/~{OE} (in), 4 ~{CE} (in), 5 GND (power), 6 ~{CEO} (A2) (io), 7 ~{SER_EN} (in), 8 VCC (power)

## AT17LV256-10SC
designator U?
FPGA Configuration EEPROM 256K Memory; Published: 17-Jul-2002; LatestRevisionDate: 13-Apr-2006; LatestRevisionNote: IPC-7351 Footprint Added.; DatasheetVersion: Rev. 1636B-05/00; PackageVersion: Aug-1999; PackageReference: 20S; Publisher: Altium Limited; PackageDescription: 20-Pin Small Outline Integrated Circuit 1.27 mm Pitch; ComponentLink1Description: Manufacturer Link; ComponentLink1URL: http://www.atmel.com; ComponentLink2Description: Datasheet; ComponentLink2URL: http://www.atmel.com/dyn/resources/prod_documents/doc2321.pdf
footprint 20S_N (SOIC, 20-Leads, Body 12.8x7.5mm, Pitch 1.27mm, IPC Medium Density)
footprint 20S_L (SOIC, 20-Leads, Body 12.8x7.5mm, Pitch 1.27mm, IPC High Density)
footprint 20S_M (SOIC, 20-Leads, Body 12.8x7.5mm, Pitch 1.27mm, IPC Low Density)
3D model 20S (20-Pin Small Outline Integrated Circuit 1.27 mm Pitch)
pins: 1 NC, 2 DATA (io), 3 NC, 4 CLK (in), 5 NC, 6 (WP) RESET/~{OE} (in), 7 NC, 8 ~{CE} (in), 9 NC, 10 GND (power), 11 NC, 12 NC, 13 NC, 14 ~{CEO2} (A2) (io), 15 NC, 16 NC, 17 ~{SER_EN} (in), 18 NC, 19 NC, 20 VCC (power)

## AT17LV256-10SI
designator U?
FPGA Configuration EEPROM 256K Memory; Published: 17-Jul-2002; LatestRevisionDate: 13-Apr-2006; LatestRevisionNote: IPC-7351 Footprint Added.; DatasheetVersion: Rev. 1636B-05/00; PackageVersion: Aug-1999; PackageReference: 20S; Publisher: Altium Limited; PackageDescription: 20-Pin Small Outline Integrated Circuit 1.27 mm Pitch; ComponentLink1Description: Manufacturer Link; ComponentLink1URL: http://www.atmel.com; ComponentLink2Description: Datasheet; ComponentLink2URL: http://www.atmel.com/dyn/resources/prod_documents/doc2321.pdf
footprint 20S_N (SOIC, 20-Leads, Body 12.8x7.5mm, Pitch 1.27mm, IPC Medium Density)
footprint 20S_L (SOIC, 20-Leads, Body 12.8x7.5mm, Pitch 1.27mm, IPC High Density)
footprint 20S_M (SOIC, 20-Leads, Body 12.8x7.5mm, Pitch 1.27mm, IPC Low Density)
3D model 20S (20-Pin Small Outline Integrated Circuit 1.27 mm Pitch)
pins: 1 NC, 2 DATA (io), 3 NC, 4 CLK (in), 5 NC, 6 (WP) RESET/~{OE} (in), 7 NC, 8 ~{CE} (in), 9 NC, 10 GND (power), 11 NC, 12 NC, 13 NC, 14 ~{CEO2} (A2) (io), 15 NC, 16 NC, 17 ~{SER_EN} (in), 18 NC, 19 NC, 20 VCC (power)

## AT17LV256A-10JC
designator U?
FPGA Configuration EEPROM 256K Memory; Published: 17-Jul-2002; LatestRevisionDate: 13-Apr-2006; LatestRevisionNote: IPC-7351 Footprint Added.; DatasheetVersion: Rev. 0996B-10/99; PackageVersion: Aug-1999; PackageReference: 20J; Publisher: Altium Limited; PackageDescription: 20-Pin Leaded Chip Carrier 1.27 mm Pitch; Code_JEDEC: MS-018-AA; Code_IPC: PLCC-20; ComponentLink1Description: Manufacturer Link; ComponentLink1URL: http://www.atmel.com; ComponentLink2Description: Datasheet; ComponentLink2URL: http://www.atmel.com/dyn/resources/prod_documents/doc2322.pdf
footprint 20J_N (Leaded Chip Carrier, 20-Leads, Body 9x9mm, Pitch 1.27mm, IPC Medium Density)
footprint 20J_L (Leaded Chip Carrier, 20-Leads, Body 9x9mm, Pitch 1.27mm, IPC High Density)
footprint 20J_M (Leaded Chip Carrier, 20-Leads, Body 9x9mm, Pitch 1.27mm, IPC Low Density)
3D model AT17LV256A-20J (20-Pin Leaded Chip Carrier 1.27 mm Pitch)
pins: 1 NC, 2 DATA (io), 3 NC, 4 DCLK (in), 5 NC, 6 NC, 7 NC, 8 (WP) OE (in), 9 nCS (in), 10 GND (power), 11 NC, 12 (A2)nCASC (io), 13 NC, 14 NC, 15 NC, 16 NC, 17 NC, 18 ~{SER_EN} (in), 19 NC, 20 VCC (power)

## AT17LV256A-10JI
designator U?
FPGA Configuration EEPROM 256K Memory; Published: 17-Jul-2002; LatestRevisionDate: 13-Apr-2006; LatestRevisionNote: IPC-7351 Footprint Added.; DatasheetVersion: Rev. 0996B-10/99; PackageVersion: Aug-1999; PackageReference: 20J; Publisher: Altium Limited; PackageDescription: 20-Pin Leaded Chip Carrier 1.27 mm Pitch; Code_JEDEC: MS-018-AA; Code_IPC: PLCC-20; ComponentLink1Description: Manufacturer Link; ComponentLink1URL: http://www.atmel.com; ComponentLink2Description: Datasheet; ComponentLink2URL: http://www.atmel.com/dyn/resources/prod_documents/doc2322.pdf
footprint 20J_N (Leaded Chip Carrier, 20-Leads, Body 9x9mm, Pitch 1.27mm, IPC Medium Density)
footprint 20J_L (Leaded Chip Carrier, 20-Leads, Body 9x9mm, Pitch 1.27mm, IPC High Density)
footprint 20J_M (Leaded Chip Carrier, 20-Leads, Body 9x9mm, Pitch 1.27mm, IPC Low Density)
3D model AT17LV256A-20J (20-Pin Leaded Chip Carrier 1.27 mm Pitch)
pins: 1 NC, 2 DATA (io), 3 NC, 4 DCLK (in), 5 NC, 6 NC, 7 NC, 8 (WP) OE (in), 9 nCS (in), 10 GND (power), 11 NC, 12 (A2)nCASC (io), 13 NC, 14 NC, 15 NC, 16 NC, 17 NC, 18 ~{SER_EN} (in), 19 NC, 20 VCC (power)

## AT17LV512-10JC
designator U?
FPGA Configuration EEPROM 512K Memory; Published: 17-Jul-2002; LatestRevisionDate: 13-Apr-2006; LatestRevisionNote: IPC-7351 Footprint Added.; DatasheetVersion: Rev. 0944B-07/99; PackageVersion: Aug-1999; PackageReference: 20J; Publisher: Altium Limited; PackageDescription: 20-Pin Leaded Chip Carrier 1.27 mm Pitch; Code_JEDEC: MS-018-AA; Code_IPC: PLCC-20; ComponentLink1Description: Manufacturer Link; ComponentLink1URL: http://www.atmel.com; ComponentLink2Description: Datasheet; ComponentLink2URL: http://www.atmel.com/dyn/resources/prod_documents/doc2321.pdf
footprint 20J_N (Leaded Chip Carrier, 20-Leads, Body 9x9mm, Pitch 1.27mm, IPC Medium Density)
footprint 20J_L (Leaded Chip Carrier, 20-Leads, Body 9x9mm, Pitch 1.27mm, IPC High Density)
footprint 20J_M (Leaded Chip Carrier, 20-Leads, Body 9x9mm, Pitch 1.27mm, IPC Low Density)
3D model AT17LV512-20J (20-Pin Leaded Chip Carrier 1.27 mm Pitch)
pins: 1 NC, 2 DATA (io), 3 NC, 4 CLK (in), 5 WP1 (in), 6 RESET/~{OE} (in), 7 WP2 (in), 8 ~{CE} (in), 9 NC, 10 GND (power), 11 NC, 12 NC, 13 NC, 14 ~{CEO}(A2) (io), 15 READY (oc), 16 NC, 17 ~{SER_EN} (in), 18 NC, 19 NC, 20 VCC (power)

## AT17LV512-10JI
designator U?
FPGA Configuration EEPROM 512K Memory; Published: 17-Jul-2002; LatestRevisionDate: 13-Apr-2006; LatestRevisionNote: IPC-7351 Footprint Added.; DatasheetVersion: Rev. 0944B-07/99; PackageVersion: Aug-1999; PackageReference: 20J; Publisher: Altium Limited; PackageDescription: 20-Pin Leaded Chip Carrier 1.27 mm Pitch; Code_JEDEC: MS-018-AA; Code_IPC: PLCC-20; ComponentLink1Description: Manufacturer Link; ComponentLink1URL: http://www.atmel.com; ComponentLink2Description: Datasheet; ComponentLink2URL: http://www.atmel.com/dyn/resources/prod_documents/doc2321.pdf
footprint 20J_N (Leaded Chip Carrier, 20-Leads, Body 9x9mm, Pitch 1.27mm, IPC Medium Density)
footprint 20J_L (Leaded Chip Carrier, 20-Leads, Body 9x9mm, Pitch 1.27mm, IPC High Density)
footprint 20J_M (Leaded Chip Carrier, 20-Leads, Body 9x9mm, Pitch 1.27mm, IPC Low Density)
3D model AT17LV512-20J (20-Pin Leaded Chip Carrier 1.27 mm Pitch)
pins: 1 NC, 2 DATA (io), 3 NC, 4 CLK (in), 5 WP1 (in), 6 RESET/~{OE} (in), 7 WP2 (in), 8 ~{CE} (in), 9 NC, 10 GND (power), 11 NC, 12 NC, 13 NC, 14 ~{CEO}(A2) (io), 15 READY (oc), 16 NC, 17 ~{SER_EN} (in), 18 NC, 19 NC, 20 VCC (power)

## AT17LV512A-10JC
designator U?
FPGA Configuration EEPROM 512K Memory; Published: 17-Jul-2002; LatestRevisionDate: 13-Apr-2006; LatestRevisionNote: IPC-7351 Footprint Added.; DatasheetVersion: Rev. 0974B-07/99; PackageVersion: Aug-1999; PackageReference: 20J; Publisher: Altium Limited; PackageDescription: 20-Pin Leaded Chip Carrier 1.27 mm Pitch; Code_JEDEC: MS-018-AA; Code_IPC: PLCC-20; ComponentLink1Description: Manufacturer Link; ComponentLink1URL: http://www.atmel.com; ComponentLink2Description: Datasheet; ComponentLink2URL: http://www.atmel.com/dyn/resources/prod_documents/doc2322.pdf
footprint 20J_N (Leaded Chip Carrier, 20-Leads, Body 9x9mm, Pitch 1.27mm, IPC Medium Density)
footprint 20J_L (Leaded Chip Carrier, 20-Leads, Body 9x9mm, Pitch 1.27mm, IPC High Density)
footprint 20J_M (Leaded Chip Carrier, 20-Leads, Body 9x9mm, Pitch 1.27mm, IPC Low Density)
3D model AT17LV512A-20J (20-Pin Leaded Chip Carrier 1.27 mm Pitch)
pins: 1 NC, 2 DATA (io), 3 NC, 4 DCLK (io), 5 WP1 (in), 6 NC, 7 NC, 8 OE (in), 9 nCS (in), 10 GND (power), 11 NC, 12 (A2)nCASC (io), 13 NC, 14 NC, 15 READY (oc), 16 NC, 17 NC, 18 ~{SER_EN} (in), 19 NC, 20 VCC (power)

## AT17LV512A-10JI
designator U?
FPGA Configuration EEPROM 512K Memory; Published: 17-Jul-2002; LatestRevisionDate: 13-Apr-2006; LatestRevisionNote: IPC-7351 Footprint Added.; DatasheetVersion: Rev. 0974B-07/99; PackageVersion: Aug-1999; PackageReference: 20J; Publisher: Altium Limited; PackageDescription: 20-Pin Leaded Chip Carrier 1.27 mm Pitch; Code_JEDEC: MS-018-AA; Code_IPC: PLCC-20; ComponentLink1Description: Manufacturer Link; ComponentLink1URL: http://www.atmel.com; ComponentLink2Description: Datasheet; ComponentLink2URL: http://www.atmel.com/dyn/resources/prod_documents/doc2322.pdf
footprint 20J_N (Leaded Chip Carrier, 20-Leads, Body 9x9mm, Pitch 1.27mm, IPC Medium Density)
footprint 20J_L (Leaded Chip Carrier, 20-Leads, Body 9x9mm, Pitch 1.27mm, IPC High Density)
footprint 20J_M (Leaded Chip Carrier, 20-Leads, Body 9x9mm, Pitch 1.27mm, IPC Low Density)
3D model AT17LV512A-20J (20-Pin Leaded Chip Carrier 1.27 mm Pitch)
pins: 1 NC, 2 DATA (io), 3 NC, 4 DCLK (io), 5 WP1 (in), 6 NC, 7 NC, 8 OE (in), 9 nCS (in), 10 GND (power), 11 NC, 12 (A2)nCASC (io), 13 NC, 14 NC, 15 READY (oc), 16 NC, 17 NC, 18 ~{SER_EN} (in), 19 NC, 20 VCC (power)